# EAGLE library part LM2597N-5.0 (library LM2597N-5.0)
SIMPLE SWITCHER
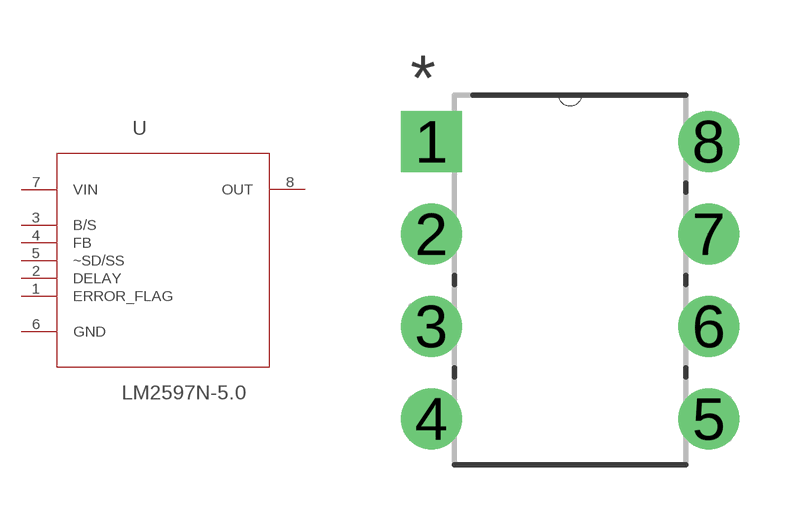
[diagram p0: symbol with the pads of DIP254P762X508-8; footprint DIP254P762X508-8]

Designator prefix U

## LM2597N-5.0 (Availability: Bad; Description: SIMPLE SWITCHER Power Converter 150 kHz 0.5A Step-Down Voltage Regulator 8-PDIP; MF: Texas Instruments; MP: LM2597N-5.0; Package: SOIC-8 Texas Instruments; Price: 1.62 USD)  [DIP254P762X508-8]
1  ERROR_FLAG  in
2  DELAY  in
3  B/S  in
4  FB  in
5  ~SD/SS  in
6  GND  pas
7  VIN  pwr
8  OUT  out

## Footprint DIP254P762X508-8 (pad centres in mm)
drill 1.118 square: 1 -7.62,7.62
drill 1.118: 2 -7.62,5.08; 3 -7.62,2.54; 4 -7.62,0; 5 0,0; 6 0,2.54; 7 0,5.08; 8 0,7.62